# Altium footprint library GOSEMICON_PKG_TO-247.PcbLib: 1 footprints
Each footprint in its own frame and in the unit in brackets; x right, y up, seen from the top. Pads: shape width x height; smd on the part's side, far side on the other; paste and mask are expansions set on the pad; w line width, h text height; cw(c..) or ccw(c..) is an arc to the next point about the centre after c.
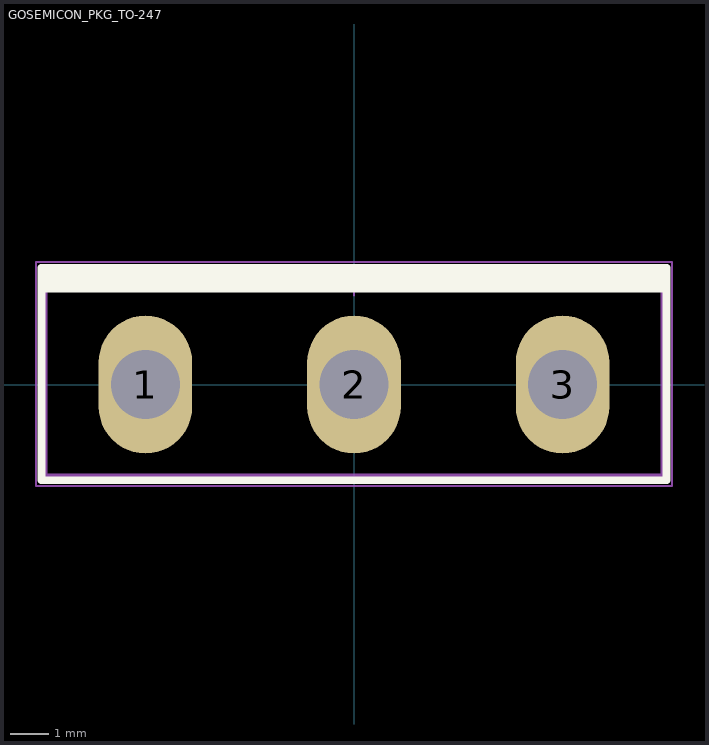
[diagram p0: the footprint, top view; thin cyan lines are the x and y axes]

## GOSEMICON_PKG_TO-247 [mm]
height 25.6
pads (3):
  oval 2.44x3.6 hole 1.8: 1(-5.44,0) 2(0,0) 3(5.44,0)
Top Overlay:
  rectangle: -8.15,2.5 8.15,3.045
  lines w0.2: -8.15,3.045 8.15,3.045 ; -8.15,3.045 -8.15,-2.5 8.15,-2.5 8.15,3.045 ; -8.15,3.045 -8.15,2.5 8.15,2.5 8.15,3.045
Mechanical 13:
  lines w0.1: -8.05,-2.376 -8.05,2.824 8.05,2.824 8.05,-2.376 -8.05,-2.376
Mechanical 15:
  lines w0.05: -8.05,2.824 8.05,2.824 ; 0,2.324 0,2.824 ; -8.3,-2.65 8.3,-2.65 8.3,3.2 -8.3,3.2 -8.3,-2.65
  lines w0.1: -0.5,0 0.5,0 ; 0,-0.5 0,0.5
  text "Thermal Interface" at -2.879,1.774 h0.5
3D body "INFINEON_PKG_TO247-3-40.stp": height 25.4, standoff -15.8, extent -7.9,-2.288 7.9,2.722